# Altium footprint library MNP-M6.PcbLib: 1 footprints
Each footprint in its own frame and in the unit in brackets; x right, y up, seen from the top. Pads: shape width x height; smd on the part's side, far side on the other; paste and mask are expansions set on the pad; w line width, h text height; cw(c..) or ccw(c..) is an arc to the next point about the centre after c.
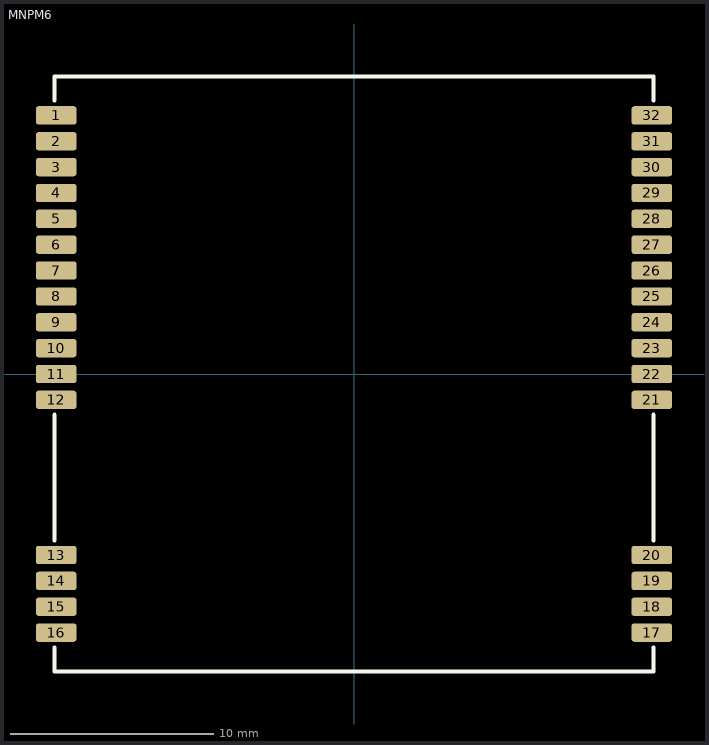
[diagram p0: the footprint, top view; thin cyan lines are the x and y axes]

## MNPM6 [mm]
height 11
pads (32):
  rrect30% 2x0.9 smd: 1(-14.625,12.7) 2(-14.625,11.43) 3(-14.625,10.16) 4(-14.625,8.89) 5(-14.625,7.62) 6(-14.625,6.35) 7(-14.625,5.08) 8(-14.625,3.81) 9(-14.625,2.54) 10(-14.625,1.27) 11(-14.625,0) 12(-14.625,-1.27) 13(-14.625,-8.89) 14(-14.625,-10.16) 15(-14.625,-11.43) 16(-14.625,-12.7) 17(14.625,-12.7) 18(14.625,-11.43) 19(14.625,-10.16) 20(14.625,-8.89) 21(14.625,-1.27) 22(14.625,0) 23(14.625,1.27) 24(14.625,2.54) 25(14.625,3.81) 26(14.625,5.08) 27(14.625,6.35) 28(14.625,7.62) 29(14.625,8.89) 30(14.625,10.16) 31(14.625,11.43) 32(14.625,12.7)
Top Overlay:
  lines w0.2: -14.7,-13.425 -14.7,-14.6 14.7,-14.6 14.7,-13.425 ; -14.7,-8.175 -14.7,-2 ; -14.7,13.425 -14.7,14.6 14.7,14.6 14.7,13.425 ; 14.7,-8.175 14.7,-2
3D body "User Library-MNP-M7.step": height 3.45, standoff -0.02, extent -14.662,-14.625 14.65,14.618